# Altium footprint library Base_Footprints.PcbLib: 43 footprints (part 1 of 3)
Each footprint in its own frame and in the unit in brackets; x right, y up, seen from the top. Pads: shape width x height; smd on the part's side, far side on the other; paste and mask are expansions set on the pad; w line width, h text height; cw(c..) or ccw(c..) is an arc to the next point about the centre after c.
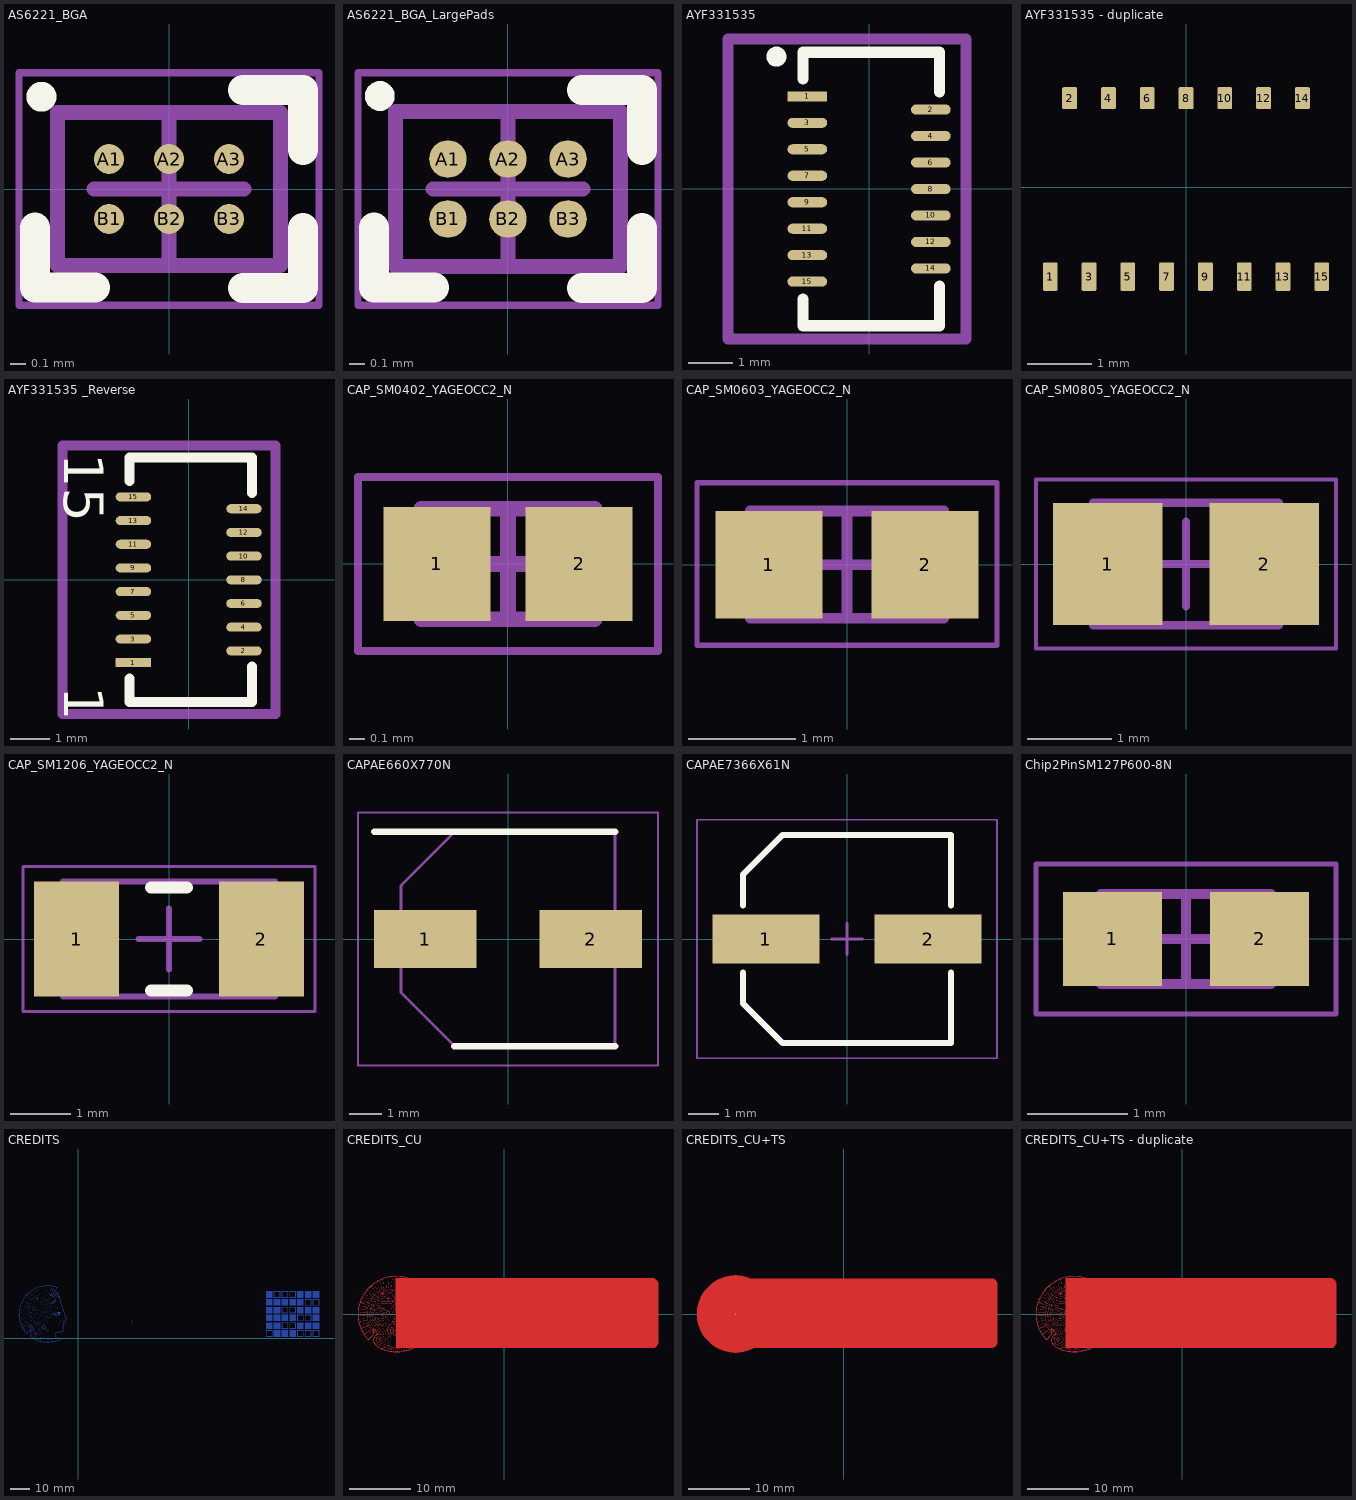
[diagram p0: the footprints below, top view; thin cyan lines are the x and y axes]

## AS6221_BGA [mm] "BGA, 6-Leads, Body 1,02x1,50mmx0,53mm, Pitch 0,40mm"
height 0.53
pads (6):
  round 0.2 smd: A1(-0.4,0.2) A2(0,0.2) A3(0.4,0.2) B1(-0.4,-0.2) B2(0,-0.2) B3(0.4,-0.2)
Top Overlay:
  circle w0.1: c-0.85,0.615 r0.05
  lines w0.2: -0.893,-0.256 -0.893,-0.656 -0.493,-0.656 ; 0.494,-0.66 0.894,-0.66 0.894,-0.26 ; 0.494,0.661 0.894,0.661 0.894,0.261
Top Courtyard:
  lines w0.05: -1,-0.775 1,-0.775 1,0.775 -1,0.775 -1,-0.775
  lines w0.1: -0.5,0 0.5,0 ; 0,-0.5 0,0.5
Mechanical 13:
  lines w0.1: -0.745,-0.51 0.745,-0.51 0.745,0.51 -0.745,0.51 -0.745,-0.51
3D body: height 0.55, standoff 0.18, extent -0.745,-0.51 0.745,0.51

## AS6221_BGA_LargePads [mm] "BGA, 6-Leads, Body 1.50x1.02mmx0.55mm, Pitch 0.40mm"
height 0.55
pads (6):
  round 0.25 smd paste-0.013: A1(-0.4,0.2) A2(0,0.2) A3(0.4,0.2) B1(-0.4,-0.2) B2(0,-0.2) B3(0.4,-0.2)
Top Overlay:
  circle w0.1: c-0.855,0.62 r0.05
  lines w0.2: -0.893,-0.256 -0.893,-0.656 -0.493,-0.656 ; 0.494,-0.66 0.894,-0.66 0.894,-0.26 ; 0.494,0.661 0.894,0.661 0.894,0.261
Top Solder:
  region: -0.625,-0.425 0.625,-0.425 0.625,0.425 -0.625,0.425
Top Courtyard:
  lines w0.05: -1,-0.775 1,-0.775 1,0.775 -1,0.775 -1,-0.775
  lines w0.1: -0.5,0 0.5,0 ; 0,-0.5 0,0.5
Top Assembly:
  lines w0.1: -0.75,-0.515 0.75,-0.515 0.75,0.515 -0.75,0.515 -0.75,-0.515
3D body: height 0.55, standoff 0.2, extent -0.75,-0.515 0.75,0.515

## AYF331535 [mm]
pads (15):
  rect 0.9x0.23 smd: 1(-1.4,2.1)
  oval 0.9x0.23 smd: 2(1.4,1.8) 3(-1.4,1.5) 4(1.4,1.2) 5(-1.4,0.9) 6(1.4,0.6) 7(-1.4,0.3) 8(1.4,0) 9(-1.4,-0.3) 10(1.4,-0.6) 11(-1.4,-0.9) 12(1.4,-1.2) 13(-1.4,-1.5) 14(1.4,-1.8) 15(-1.4,-2.1)
Top Overlay:
  circle w0.254: c-2.1,3 r0.1
  lines w0.254: -1.5,-2.5 -1.5,-3.1 1.6,-3.1 1.6,-2.2 ; -1.5,2.5 -1.5,3.1 1.6,3.1 1.6,2.2
Top Courtyard:
  lines w0.254: -3.2,-3.4 -3.2,3.4 2.2,3.4 2.2,-3.4 -3.2,-3.4
3D body: height 0.9, standoff 0, extent -1.4,-3 1.55,3

## AYF331535 - duplicate [mm] "AYF331535 FFC & FPC-Steckverbinder CONNECTOR SURFACE MOUNT"
pads (15):
  rrect20% 0.23x0.44 smd: 1(-2.1,-1.38) 3(-1.5,-1.38) 5(-0.9,-1.38) 7(-0.3,-1.38) 9(0.3,-1.38) 11(0.9,-1.38) 13(1.5,-1.38) 15(2.1,-1.38)
  rrect20% 0.23x0.34 smd: 2(-1.8,1.38) 4(-1.2,1.38) 6(-0.6,1.38) 8(0,1.38) 10(0.6,1.38) 12(1.2,1.38) 14(1.8,1.38)
3D body: height 1.84, standoff 0.01, extent -2.975,0.475 2.975,0.825
3D body: height 0.9, standoff 0, extent -3,-1.475 3,1.475

## AYF331535 _Reverse [mm]
pads (15):
  rect 0.9x0.23 smd: 1(-1.4,-2.1)
  oval 0.9x0.23 smd: 2(1.4,-1.8) 3(-1.4,-1.5) 4(1.4,-1.2) 5(-1.4,-0.9) 6(1.4,-0.6) 7(-1.4,-0.3) 8(1.4,0) 9(-1.4,0.3) 10(1.4,0.6) 11(-1.4,0.9) 12(1.4,1.2) 13(-1.4,1.5) 14(1.4,1.8) 15(-1.4,2.1)
Top Overlay:
  lines w0.254: -1.5,-2.5 -1.5,-3.1 1.6,-3.1 1.6,-2.2 ; -1.5,2.5 -1.5,3.1 1.6,3.1 1.6,2.2
  text "15" at -3.15,3.2 h1
  text "1" at -3.15,-2.7 h1
Top Courtyard:
  lines w0.254: -3.2,-3.4 -3.2,3.4 2.2,3.4 2.2,-3.4 -3.2,-3.4
3D body: height 0.9, standoff 0, extent -1.4,-3 1.55,3

## CAP_SM0402_YAGEOCC2_N [mm] "Capacitor, Yageo CC Class2, SM0402, IPC Medium Density"
height 0.9
pads (2):
  rect 0.68x0.72 smd: 1(-0.45,0) 2(0.45,0)
Mechanical 13:
  lines w0.1: -0.55,-0.35 0.55,-0.35 0.55,0.35 -0.55,0.35 -0.55,-0.35
Mechanical 15:
  lines w0.05: -0.95,-0.55 0.95,-0.55 0.95,0.55 -0.95,0.55 -0.95,-0.55
  lines w0.1: -0.35,0 0.35,0 ; 0,-0.35 0,0.35
3D body: height 0.6, standoff 0, extent 0.3,-0.35 0.55,0.35
3D body: height 0.6, standoff 0, extent -0.55,-0.35 -0.3,0.35
3D body: height 0.6, standoff 0, extent -0.3,-0.35 0.3,0.35

## CAP_SM0603_YAGEOCC2_N [mm] "Capacitor, Yageo CC Class2, SM0603, IPC Medium Density"
height 0.9
pads (2):
  rect 1x1 smd: 1(-0.727,0) 2(0.727,0)
Mechanical 13:
  lines w0.1: -0.9,-0.5 -0.9,0.5 0.9,0.5 0.9,-0.5 -0.9,-0.5
Mechanical 15:
  lines w0.05: -1.397,-0.75 -1.397,0.762 1.397,0.762 1.397,-0.75 -1.397,-0.75
  lines w0.1: -0.5,0 0.5,0 ; 0,-0.5 0,0.5
3D body: height 0.9, standoff 0, extent -0.5,-0.5 0.5,0.5
3D body: height 0.9, standoff 0, extent -0.9,-0.5 -0.5,0.5
3D body: height 0.9, standoff 0, extent 0.5,-0.5 0.9,0.5

## CAP_SM0805_YAGEOCC2_N [mm] "Capacitor, Yageo CC Class2, SM0805, IPC Medium Density"
height 1.45
pads (2):
  rect 1.3x1.45 smd: 1(-0.927,0) 2(0.927,0)
Mechanical 13:
  lines w0.1: -1.1,-0.725 -1.1,0.725 1.1,0.725 1.1,-0.725 -1.1,-0.725
Mechanical 15:
  lines w0.05: -1.778,-1 -1.778,1 1.778,1 1.778,-1 -1.778,-1
  lines w0.1: -0.5,0 0.5,0 ; 0,-0.5 0,0.5
3D body: height 1.45, standoff 0, extent -0.6,-0.725 0.6,0.725
3D body: height 1.45, standoff 0, extent -1.1,-0.725 -0.6,0.725
3D body: height 1.45, standoff 0, extent 0.6,-0.725 1.1,0.725

## CAP_SM1206_YAGEOCC2_N [mm] "Capacitor, Yageo CC Class2, SM1206, IPC Medium Density"
height 1.8
pads (2):
  rect 1.4x1.9 smd: 1(-1.527,0) 2(1.527,0)
Top Overlay:
  lines w0.2: -0.3,-0.85 0.3,-0.85 ; -0.3,0.85 0.3,0.85
Mechanical 13:
  lines w0.1: -1.75,-0.95 -1.75,0.95 1.75,0.95 1.75,-0.95 -1.75,-0.95
Mechanical 15:
  lines w0.05: -2.413,-1.2 -2.413,1.2 2.413,1.2 2.413,-1.2 -2.413,-1.2
  lines w0.1: -0.5,0 0.5,0 ; 0,-0.5 0,0.5
3D body: height 1.8, standoff 0, extent -1.25,-0.95 1.25,0.95
3D body: height 1.8, standoff 0, extent -1.75,-0.95 -1.25,0.95
3D body: height 1.8, standoff 0, extent 1.25,-0.95 1.75,0.95

## CAPAE660X770N [mm]
pads (2):
  rect 3.15x1.8 smd: 1(-2.55,0) 2(2.55,0)
Top Overlay:
  lines w0.2: -4.125,3.3 3.3,3.3 ; -1.65,-3.3 3.3,-3.3
Mechanical 15:
  lines w0.1: -3.3,-1.65 -3.3,1.65 -1.65,3.3 3.3,3.3 3.3,-3.3 -1.65,-3.3 -3.3,-1.65
Mechanical 20:
  lines w0.05: -4.625,-3.9 4.625,-3.9 4.625,3.9 -4.625,3.9 -4.625,-3.9
3D body "865080545012.stp": height 7.7, standoff 0, extent -3.4,-3.4 3.4,3.4

## CAPAE7366X61N [mm] "Aluminum Electrolytic Capacitor, Body 6,60x6,60x6,10mm, IPC Medium Density"
height 6.1
pads (2):
  rect 3.5x1.6 smd: 1(-2.65,0) 2(2.65,0)
Top Overlay:
  lines w0.2: -3.4,-1.1 -3.4,-2.1 -2.1,-3.4 3.4,-3.4 3.4,-1.1 ; -3.4,1.1 -3.4,2.1 -2.1,3.4 3.4,3.4 3.4,1.1
Mechanical 15:
  lines w0.05: -4.9,-3.9 4.9,-3.9 4.9,3.9 -4.9,3.9 -4.9,-3.9
  lines w0.1: -0.5,0 0.5,0 ; 0,-0.5 0,0.5
3D body "EEE-FK1E470P.stp": height 5.8, standoff 0, extent -3.683,-3.3 3.617,3.3

## Chip2PinSM127P600-8N [mm]
height 0.7
pads (2):
  rect 0.99x0.94 smd: 1(-0.735,0) 2(0.735,0)
Top Assembly:
  lines w0.1: -0.85,-0.45 0.85,-0.45 0.85,0.45 -0.85,0.45 -0.85,-0.45
Mechanical 15:
  lines w0.05: -1.5,-0.75 1.5,-0.75 1.5,0.75 -1.5,0.75 -1.5,-0.75
  lines w0.1: -0.45,0 0.45,0 ; 0,-0.45 0,0.45
3D body: height 0.7, standoff 0, extent 0.45,-0.45 0.85,0.45
3D body: height 0.7, standoff 0, extent -0.85,-0.45 -0.45,0.45
3D body: height 0.7, standoff 0, extent -0.45,-0.45 0.45,0.45

## CREDITS [mm]
Bottom Layer:
  region: 102.337,4.953 100.035,4.953 100.035,8.093 103.174,8.093 103.174,4.953 102.547,4.953
  region: 107.151,12.907 104.012,12.907 104.012,16.047 107.151,16.047 hole: 106.733,15.628 104.43,15.628 104.43,13.326 106.733,13.326
  region: 115.105,8.93 111.965,8.93 111.965,11.233 111.965,11.442 111.965,12.07 115.105,12.07 hole: 114.686,11.651 112.384,11.651 112.384,10.814 112.384,10.605 112.384,9.349 114.686,9.349
  region: 115.105,19.186 115.105,16.884 111.965,16.884 111.965,20.023 115.105,20.023 115.105,19.395
  region: 119.919,15.628 119.919,16.047 123.058,16.047 123.058,12.907 119.919,12.907 119.919,15.419
  region: 100.035,1.395 100.035,4.116 103.174,4.116 103.174,0.977 100.035,0.977 100.035,1.186
  region: 107.151,7.884 107.151,4.953 104.012,4.953 104.012,8.093 107.151,8.093 hole: 106.733,7.674 104.43,7.674 104.43,6 104.43,5.791 104.43,5.372 106.733,5.372
  region: 117.407,16.047 119.081,16.047 119.081,12.907 115.942,12.907 115.942,16.047 117.198,16.047
  region: 111.128,4.953 107.988,4.953 107.988,6.837 107.988,7.047 107.988,8.093 111.128,8.093 hole: 110.709,7.674 108.407,7.674 108.407,6.837 108.407,6.628 108.407,5.372 110.709,5.372
  region: 98.988,4.953 96.058,4.953 96.058,8.093 99.198,8.093 99.198,4.953
  region: 119.081,0.977 115.942,0.977 115.942,4.116 119.081,4.116 hole: 118.663,3.698 116.36,3.698 116.36,1.605 116.36,1.395 118.663,1.395
  region: 123.058,16.884 119.919,16.884 119.919,20.023 123.058,20.023 hole: 122.64,19.605 120.337,19.605 120.337,17.302 122.64,17.302 122.64,19.395
  region: 115.942,4.953 115.942,8.093 119.081,8.093 119.081,4.953 116.151,4.953
  region: 110.081,4.116 111.128,4.116 111.128,0.977 107.988,0.977 107.988,4.116 109.872,4.116
  region: 119.081,8.93 115.942,8.93 115.942,12.07 119.081,12.07 hole: 118.663,11.651 116.36,11.651 116.36,10.814 116.36,10.605 116.36,9.349 118.663,9.349
  region: 111.128,20.86 107.988,20.86 107.988,24 111.128,24 hole: 110.709,23.581 108.407,23.581 108.407,21.279 110.709,21.279
  region: 114.058,4.953 111.965,4.953 111.965,8.093 115.105,8.093 115.105,4.953 114.267,4.953
  region: 119.919,22.953 119.919,24 123.058,24 123.058,20.86 119.919,20.86 119.919,22.744
  region: 100.035,14.791 100.035,16.047 103.174,16.047 103.174,12.907 100.035,12.907 100.035,14.581
  region: 123.058,0.977 119.919,0.977 119.919,4.116 123.058,4.116 hole: 122.64,3.698 120.337,3.698 120.337,1.395 122.64,1.395
  region: 99.198,0.977 96.058,0.977 96.058,4.116 99.198,4.116 hole: 98.779,3.698 96.477,3.698 96.477,1.395 98.779,1.395 98.779,2.023 98.779,2.233
  region: 119.081,21.279 119.081,20.86 115.942,20.86 115.942,24 119.081,24 119.081,21.488
  region: 104.012,11.442 104.012,12.07 107.151,12.07 107.151,8.93 104.012,8.93 104.012,11.233
  region: 107.151,2.86 107.151,0.977 104.012,0.977 104.012,4.116 107.151,4.116 107.151,3.07
  region: 101.709,12.07 103.174,12.07 103.174,8.93 100.035,8.93 100.035,12.07 101.5,12.07
  region: 103.174,20.86 100.035,20.86 100.035,24 103.174,24 hole: 102.756,23.581 100.453,23.581 100.453,22.535 100.453,22.326 100.453,21.279 102.756,21.279
  region: 112.384,12.907 111.965,12.907 111.965,16.047 115.105,16.047 115.105,12.907 112.593,12.907
  region: 96.267,16.884 96.058,16.884 96.058,20.023 99.198,20.023 99.198,16.884 96.477,16.884
  region: 119.081,17.721 119.081,17.512 119.081,16.884 115.942,16.884 115.942,20.023 119.081,20.023 hole: 118.663,19.605 116.36,19.605 116.36,17.302 118.663,17.302
  region: 103.174,19.395 103.174,16.884 100.035,16.884 100.035,20.023 103.174,20.023 103.174,19.605
  region: 110.709,8.93 107.988,8.93 107.988,12.07 111.128,12.07 111.128,8.93 110.919,8.93
  region: 99.198,14.163 99.198,12.907 96.058,12.907 96.058,16.047 99.198,16.047 99.198,14.372
  region: 107.988,19.395 107.988,20.023 111.128,20.023 111.128,16.884 107.988,16.884 107.988,19.186
  region: 122.64,12.07 123.058,12.07 123.058,8.93 119.919,8.93 119.919,12.07 122.43,12.07
  region: 119.919,6.837 119.919,8.093 123.058,8.093 123.058,4.953 119.919,4.953 119.919,6.628
  region: 115.105,21.698 115.105,20.86 111.965,20.86 111.965,24 115.105,24 115.105,21.907
  region: 99.198,9.349 99.198,8.93 96.058,8.93 96.058,12.07 99.198,12.07 99.198,9.558
  region: 111.128,12.907 107.988,12.907 107.988,16.047 111.128,16.047 hole: 110.709,15.628 108.407,15.628 108.407,14.581 108.407,14.372 108.407,13.326 110.709,13.326
  region: 98.151,24 99.198,24 99.198,20.86 96.058,20.86 96.058,24 97.942,24
  region: 104.012,18.349 104.012,20.023 107.151,20.023 107.151,16.884 104.012,16.884 104.012,18.14
  region: 107.151,20.86 104.012,20.86 104.012,24 107.151,24 hole: 106.733,23.581 104.43,23.581 104.43,21.279 106.733,21.279
  region: 115.105,0.977 111.965,0.977 111.965,4.116 115.105,4.116 hole: 114.686,3.698 112.384,3.698 112.384,1.395 114.686,1.395 114.686,3.07 114.686,3.279
  region: -12.109,19.295 -12.159,19.446 -12.126,19.613 -12.042,19.697 -11.907,19.731 -11.773,19.697 -11.689,19.613 -11.639,19.429 -11.689,19.311 -11.74,19.261 -11.907,19.194 -12.075,19.261 -12.092,19.278
  region: -12.746,18.791 -12.646,18.892 -12.478,18.858 -12.428,18.808 -12.394,18.741 -12.36,18.64 -12.394,18.539 -12.444,18.455 -12.579,18.422 -12.713,18.455 -12.83,18.573 -12.797,18.741 -12.763,18.774
  region: -13.451,17.818 -13.367,17.935 -13.149,17.952 -13.065,17.868 -13.099,17.633 -13.183,17.549 -13.351,17.583 -13.435,17.667 -13.468,17.801
  region: -21.003,19.899 -21.087,19.983 -21.121,20.117 -21.087,20.318 -20.903,20.402 -20.735,20.369 -20.651,20.285 -20.685,19.983 -20.768,19.899 -20.97,19.899
  region: -17.11,6.473 -16.808,6.238 -16.757,6.188 -16.657,5.953 -16.69,5.516 -16.825,5.281 -16.875,5.231 -16.942,5.197 -17.009,5.13 -17.177,5.063 -17.462,5.046 -17.63,5.08 -17.815,5.197 -18.033,5.416 -18.083,5.6 -18.1,5.953 -17.932,6.255 -17.815,6.372 -17.764,6.389 -17.748,6.406 -17.513,6.506 hole: -17.278,6.238 -17.546,6.204 -17.58,6.204 -17.764,6.053 -17.832,5.885 -17.865,5.751 -17.781,5.533 -17.731,5.483 -17.697,5.416 -17.513,5.332 -17.378,5.298 -17.194,5.348 -17.076,5.432 -16.959,5.55 -16.925,5.684 -16.892,5.785 -16.959,5.986 -17.11,6.171
  region: -9.256,13.354 -9.172,13.27 -9.205,13.135 -9.323,13.018 -9.491,12.917 -9.507,12.8 -9.474,12.699 -9.507,12.296 -9.642,12.061 -9.692,12.011 -9.86,11.944 -9.994,11.91 -10.43,11.877 -11.538,11.91 -11.639,11.944 -11.924,11.994 -12.092,12.028 -12.26,12.095 -12.444,12.145 -12.696,12.162 -12.713,12.246 -12.629,12.363 -12.512,12.481 -12.444,12.514 -12.31,12.649 -12.243,12.682 -12.176,12.749 -11.471,13.085 -11.337,13.119 -11.085,13.203 -11.068,13.219 -10.665,13.286 -10.531,13.32 -10.095,13.354 -9.961,13.387 hole: -10.632,13.052 -10.733,13.018 -10.8,12.984 -10.85,12.934 -10.884,12.8 -10.85,12.33 -10.766,12.145 -10.649,12.128 -10.347,12.162 -10.279,12.229 -10.363,12.447 -10.38,12.498 -10.38,12.531 -10.397,12.716 -10.38,13.035 hole: -11.303,12.884 -11.32,12.867 -11.337,12.85 -11.555,12.766 -12.142,12.447 -12.159,12.363 -12.109,12.313 -11.974,12.28 -11.79,12.229 -11.622,12.196 -11.354,12.162 -11.169,12.145 -11.085,12.196 -11.119,12.632 -11.152,12.766 -11.186,12.867
  region: 406 vertices and 73 holes, not listed, extent -30.284,-2.019 -5.983,26.981
  region: 27.006,8.479 27.006,8.769 27.296,8.769 27.296,8.479 27.103,8.479
  text "Malte Nilges / 01/2024  v2" at 0,0 h8

## CREDITS_CU [mm]
Top Layer:
  pour cut-out: 24.3,5.8 24.379,5.8 24.533,5.769 24.679,5.709 24.81,5.621 24.921,5.51 25.009,5.379 25.069,5.233 25.1,5.079 25.1,5 25.1,-4.7 25.1,-4.779 25.069,-4.933 25.009,-5.079 24.921,-5.21 24.81,-5.321 24.679,-5.409 24.533,-5.469 24.379,-5.5 24.3,-5.5
  region: -19.892,3.183 -19.927,3.219 -19.942,3.277 -19.927,3.363 -19.848,3.399 -19.776,3.385 -19.741,3.349 -19.755,3.219 -19.791,3.183 -19.877,3.183
  region: 406 vertices and 73 holes, not listed, extent -23.868,-6.207 -13.456,6.218
  region: -18.223,-2.569 -18.094,-2.67 -18.072,-2.691 -18.029,-2.792 -18.044,-2.979 -18.101,-3.079 -18.123,-3.101 -18.151,-3.115 -18.18,-3.144 -18.252,-3.173 -18.374,-3.18 -18.446,-3.166 -18.525,-3.115 -18.619,-3.022 -18.64,-2.943 -18.648,-2.792 -18.576,-2.662 -18.525,-2.612 -18.504,-2.605 -18.497,-2.598 -18.396,-2.554 hole: -18.295,-2.67 -18.41,-2.684 -18.425,-2.684 -18.504,-2.749 -18.533,-2.821 -18.547,-2.878 -18.511,-2.972 -18.489,-2.993 -18.475,-3.022 -18.396,-3.058 -18.338,-3.072 -18.259,-3.051 -18.209,-3.015 -18.159,-2.964 -18.144,-2.907 -18.13,-2.864 -18.159,-2.777 -18.223,-2.698
  region: -16.656,2.292 -16.62,2.342 -16.526,2.349 -16.49,2.313 -16.505,2.213 -16.541,2.177 -16.613,2.191 -16.649,2.227 -16.663,2.285
  region: -16.354,2.709 -16.311,2.752 -16.239,2.738 -16.217,2.716 -16.203,2.687 -16.188,2.644 -16.203,2.601 -16.224,2.565 -16.282,2.551 -16.339,2.565 -16.39,2.615 -16.375,2.687 -16.361,2.702
  region: -16.081,2.925 -16.102,2.989 -16.088,3.061 -16.052,3.097 -15.994,3.112 -15.937,3.097 -15.901,3.061 -15.879,2.982 -15.901,2.932 -15.922,2.91 -15.994,2.881 -16.066,2.91 -16.073,2.917
  region: -14.858,0.379 -14.822,0.343 -14.837,0.286 -14.887,0.235 -14.959,0.192 -14.966,0.142 -14.952,0.099 -14.966,-0.074 -15.024,-0.174 -15.045,-0.196 -15.117,-0.225 -15.175,-0.239 -15.362,-0.254 -15.836,-0.239 -15.879,-0.225 -16.002,-0.203 -16.073,-0.189 -16.145,-0.16 -16.224,-0.138 -16.332,-0.131 -16.339,-0.095 -16.304,-0.045 -16.253,0.005 -16.224,0.02 -16.167,0.077 -16.138,0.092 -16.109,0.12 -15.807,0.264 -15.75,0.279 -15.642,0.314 -15.635,0.322 -15.462,0.35 -15.405,0.365 -15.218,0.379 -15.16,0.394 hole: -15.448,0.25 -15.491,0.235 -15.52,0.221 -15.541,0.199 -15.556,0.142 -15.541,-0.059 -15.505,-0.138 -15.455,-0.146 -15.326,-0.131 -15.297,-0.103 -15.333,-0.009 -15.34,0.012 -15.34,0.027 -15.347,0.106 -15.34,0.243 hole: -15.735,0.178 -15.743,0.171 -15.75,0.163 -15.843,0.128 -16.095,-0.009 -16.102,-0.045 -16.081,-0.067 -16.023,-0.081 -15.944,-0.103 -15.872,-0.117 -15.757,-0.131 -15.678,-0.138 -15.642,-0.117 -15.656,0.07 -15.671,0.128 -15.685,0.171
  region: 15.071,-4.309 13.909,-4.309 13.909,-3.146 15.071,-3.146 hole: 14.916,-3.301 14.064,-3.301 14.064,-4.153 14.916,-4.153 14.916,-3.921 14.916,-3.843
  region: 15.071,-1.208 15.071,-1.363 13.909,-1.363 13.909,-0.2 15.071,-0.2 15.071,-1.13
  region: 14.994,-2.836 13.909,-2.836 13.909,-1.673 15.071,-1.673 15.071,-2.836
  region: 14.684,4.219 15.071,4.219 15.071,3.056 13.909,3.056 13.909,4.219 14.606,4.219
  region: 15.071,0.575 15.071,0.11 13.909,0.11 13.909,1.273 15.071,1.273 15.071,0.653
  region: 13.986,1.583 13.909,1.583 13.909,2.746 15.071,2.746 15.071,1.583 14.064,1.583
  region: 16.234,-2.836 15.381,-2.836 15.381,-1.673 16.544,-1.673 16.544,-2.836 16.312,-2.836
  region: 16.544,3.056 15.381,3.056 15.381,4.219 16.544,4.219 hole: 16.389,4.064 15.536,4.064 15.536,3.676 15.536,3.598 15.536,3.211 16.389,3.211
  region: 15.381,-4.153 15.381,-3.146 16.544,-3.146 16.544,-4.309 15.381,-4.309 15.381,-4.231
  region: 16.002,-0.2 16.544,-0.2 16.544,-1.363 15.381,-1.363 15.381,-0.2 15.924,-0.2
  region: 16.544,2.513 16.544,1.583 15.381,1.583 15.381,2.746 16.544,2.746 16.544,2.591
  region: 15.381,0.808 15.381,1.273 16.544,1.273 16.544,0.11 15.381,0.11 15.381,0.73
  region: 18.017,0.11 16.854,0.11 16.854,1.273 18.017,1.273 hole: 17.862,1.118 17.009,1.118 17.009,0.265 17.862,0.265
  region: 18.017,3.056 16.854,3.056 16.854,4.219 18.017,4.219 hole: 17.862,4.064 17.009,4.064 17.009,3.211 17.862,3.211
  region: 18.017,-1.75 18.017,-2.836 16.854,-2.836 16.854,-1.673 18.017,-1.673 hole: 17.862,-1.828 17.009,-1.828 17.009,-2.448 17.009,-2.526 17.009,-2.681 17.862,-2.681
  region: 16.854,-0.433 16.854,-0.2 18.017,-0.2 18.017,-1.363 16.854,-1.363 16.854,-0.51
  region: 18.017,-3.611 18.017,-4.309 16.854,-4.309 16.854,-3.146 18.017,-3.146 18.017,-3.533
  region: 16.854,2.126 16.854,2.746 18.017,2.746 18.017,1.583 16.854,1.583 16.854,2.048
  region: 19.335,-1.363 18.327,-1.363 18.327,-0.2 19.49,-0.2 19.49,-1.363 19.412,-1.363
  region: 19.49,3.056 18.327,3.056 18.327,4.219 19.49,4.219 hole: 19.335,4.064 18.482,4.064 18.482,3.211 19.335,3.211
  region: 18.327,2.513 18.327,2.746 19.49,2.746 19.49,1.583 18.327,1.583 18.327,2.436
  region: 19.49,0.11 18.327,0.11 18.327,1.273 19.49,1.273 hole: 19.335,1.118 18.482,1.118 18.482,0.73 18.482,0.653 18.482,0.265 19.335,0.265
  region: 19.102,-3.146 19.49,-3.146 19.49,-4.309 18.327,-4.309 18.327,-3.146 19.025,-3.146
  region: 19.49,-2.836 18.327,-2.836 18.327,-2.138 18.327,-2.06 18.327,-1.673 19.49,-1.673 hole: 19.335,-1.828 18.482,-1.828 18.482,-2.138 18.482,-2.216 18.482,-2.681 19.335,-2.681
  region: 20.963,-1.363 19.8,-1.363 19.8,-0.51 19.8,-0.433 19.8,-0.2 20.963,-0.2 hole: 20.808,-0.355 19.955,-0.355 19.955,-0.665 19.955,-0.743 19.955,-1.208 20.808,-1.208
  region: 19.955,0.11 19.8,0.11 19.8,1.273 20.963,1.273 20.963,0.11 20.033,0.11
  region: 20.575,-2.836 19.8,-2.836 19.8,-1.673 20.963,-1.673 20.963,-2.836 20.653,-2.836
  region: 20.963,3.366 20.963,3.056 19.8,3.056 19.8,4.219 20.963,4.219 20.963,3.443
  region: 20.963,-4.309 19.8,-4.309 19.8,-3.146 20.963,-3.146 hole: 20.808,-3.301 19.955,-3.301 19.955,-4.153 20.808,-4.153 20.808,-3.533 20.808,-3.456
  region: 20.963,2.436 20.963,1.583 19.8,1.583 19.8,2.746 20.963,2.746 20.963,2.513
  region: 22.436,1.893 22.436,1.816 22.436,1.583 21.273,1.583 21.273,2.746 22.436,2.746 hole: 22.281,2.591 21.428,2.591 21.428,1.738 22.281,1.738
  region: 22.436,-1.363 21.273,-1.363 21.273,-0.2 22.436,-0.2 hole: 22.281,-0.355 21.428,-0.355 21.428,-0.665 21.428,-0.743 21.428,-1.208 22.281,-1.208
  region: 22.436,3.211 22.436,3.056 21.273,3.056 21.273,4.219 22.436,4.219 22.436,3.288
  region: 22.436,-4.309 21.273,-4.309 21.273,-3.146 22.436,-3.146 hole: 22.281,-3.301 21.428,-3.301 21.428,-4.076 21.428,-4.153 22.281,-4.153
  region: 21.273,-2.836 21.273,-1.673 22.436,-1.673 22.436,-2.836 21.35,-2.836
  region: 21.816,1.273 22.436,1.273 22.436,0.11 21.273,0.11 21.273,1.273 21.738,1.273
  region: 22.746,3.831 22.746,4.219 23.909,4.219 23.909,3.056 22.746,3.056 22.746,3.753
  region: 23.753,-0.2 23.909,-0.2 23.909,-1.363 22.746,-1.363 22.746,-0.2 23.676,-0.2
  region: 22.746,-2.138 22.746,-1.673 23.909,-1.673 23.909,-2.836 22.746,-2.836 22.746,-2.216
  region: 23.909,-4.309 22.746,-4.309 22.746,-3.146 23.909,-3.146 hole: 23.753,-3.301 22.901,-3.301 22.901,-4.153 23.753,-4.153
  region: 23.909,1.583 22.746,1.583 22.746,2.746 23.909,2.746 hole: 23.753,2.591 22.901,2.591 22.901,1.738 23.753,1.738 23.753,2.513
  region: 22.746,1.118 22.746,1.273 23.909,1.273 23.909,0.11 22.746,0.11 22.746,1.04
  pour cut-out: 24.3,5.8 24.3,-5.5 -17.606,-5.5 -17.696,5.8
  text "01-2024" at -11.848,-3.3 h2.2
  text "Malte Nilges" at -11.796,1.067 h2.2

## CREDITS_CU+TS [mil]
pads (1):
  round 1 smd paste-99999 mask-99999: ""(-696.31,0.36)
Top Layer:
  region: 956.69,228.35 956.69,-216.54 -693.39,-216.54 -693.39,228.35
  region: 956.69,228.35 959.79,228.35 965.88,227.14 971.61,224.76 976.77,221.31 981.16,216.93 984.6,211.77 986.98,206.04 988.19,199.95 988.19,196.85 988.19,-185.04 988.19,-188.14 986.98,-194.23 984.6,-199.96 981.16,-205.12 976.77,-209.5 971.61,-212.95 965.88,-215.32 959.79,-216.54 956.69,-216.54
  region: -783.13,125.33 -784.55,126.75 -785.11,129.01 -784.55,132.41 -781.43,133.83 -778.6,133.26 -777.19,131.84 -777.75,126.75 -779.17,125.33 -782.56,125.33
  region: 406 vertices and 73 holes, not listed, extent -939.68,-244.38 -529.77,244.8
  region: -717.45,-101.14 -712.36,-105.1 -711.51,-105.95 -709.81,-109.91 -710.38,-117.27 -712.64,-121.23 -713.49,-122.08 -714.62,-122.65 -715.76,-123.78 -718.59,-124.92 -723.4,-125.2 -726.23,-124.63 -729.34,-122.65 -733.02,-118.97 -733.87,-115.86 -734.16,-109.91 -731.33,-104.82 -729.34,-102.83 -728.5,-102.55 -728.21,-102.27 -724.25,-100.57 hole: -720.29,-105.1 -724.81,-105.67 -725.38,-105.67 -728.5,-108.21 -729.63,-111.04 -730.19,-113.31 -728.78,-116.99 -727.93,-117.84 -727.36,-118.97 -724.25,-120.39 -721.98,-120.95 -718.87,-120.1 -716.89,-118.69 -714.91,-116.71 -714.34,-114.44 -713.77,-112.74 -714.91,-109.35 -717.45,-106.23
  region: -655.74,90.23 -654.33,92.21 -650.65,92.5 -649.23,91.08 -649.8,87.12 -651.21,85.7 -654.04,86.27 -655.46,87.68 -656.02,89.95
  region: -643.85,106.65 -642.15,108.35 -639.32,107.78 -638.47,106.93 -637.91,105.8 -637.34,104.1 -637.91,102.4 -638.76,100.99 -641.02,100.42 -643.29,100.99 -645.27,102.97 -644.7,105.8 -644.14,106.37
  region: -633.1,115.14 -633.94,117.69 -633.38,120.52 -631.96,121.94 -629.7,122.5 -627.43,121.94 -626.02,120.52 -625.17,117.41 -626.02,115.43 -626.87,114.58 -629.7,113.44 -632.53,114.58 -632.81,114.86
  region: -584.97,14.93 -583.55,13.51 -584.12,11.25 -586.1,9.27 -588.93,7.57 -589.22,5.59 -588.65,3.89 -589.22,-2.9 -591.48,-6.87 -592.33,-7.72 -595.16,-8.85 -597.43,-9.42 -604.79,-9.98 -623.47,-9.42 -625.17,-8.85 -629.98,-8 -632.81,-7.43 -635.64,-6.3 -638.76,-5.45 -643,-5.17 -643.29,-3.75 -641.87,-1.77 -639.89,0.21 -638.76,0.78 -636.49,3.04 -635.36,3.61 -634.23,4.74 -622.34,10.4 -620.07,10.97 -615.83,12.38 -615.54,12.66 -608.75,13.8 -606.48,14.36 -599.12,14.93 -596.86,15.5 hole: -608.18,9.83 -609.88,9.27 -611.01,8.7 -611.86,7.85 -612.43,5.59 -611.86,-2.34 -610.45,-5.45 -608.47,-5.74 -603.37,-5.17 -602.24,-4.04 -603.65,-0.36 -603.94,0.49 -603.94,1.06 -604.22,4.17 -603.94,9.55 hole: -619.51,7 -619.79,6.72 -620.07,6.44 -623.75,5.02 -633.66,-0.36 -633.94,-1.77 -633.1,-2.62 -630.83,-3.19 -627.72,-4.04 -624.89,-4.6 -620.36,-5.17 -617.24,-5.45 -615.83,-4.6 -616.39,2.76 -616.96,5.02 -617.53,6.72
  region: 593.36,-169.63 547.58,-169.63 547.58,-123.85 593.36,-123.85 hole: 587.26,-129.95 553.68,-129.95 553.68,-163.52 587.26,-163.52 587.26,-154.37 587.26,-151.32
  region: 593.36,-47.55 593.36,-53.65 547.58,-53.65 547.58,-7.87 593.36,-7.87 593.36,-44.5
  region: 590.31,-111.64 547.58,-111.64 547.58,-65.86 593.36,-65.86 593.36,-111.64
  region: 578.1,166.09 593.36,166.09 593.36,120.31 547.58,120.31 547.58,166.09 575.05,166.09
  region: 593.36,22.65 593.36,4.33 547.58,4.33 547.58,50.11 593.36,50.11 593.36,25.7
  region: 550.63,62.32 547.58,62.32 547.58,108.1 593.36,108.1 593.36,62.32 553.68,62.32
  region: 639.14,-111.64 605.57,-111.64 605.57,-65.86 651.35,-65.86 651.35,-111.64 642.19,-111.64
  region: 651.35,120.31 605.57,120.31 605.57,166.09 651.35,166.09 hole: 645.24,159.98 611.67,159.98 611.67,144.72 611.67,141.67 611.67,126.41 645.24,126.41
  region: 605.57,-163.52 605.57,-123.85 651.35,-123.85 651.35,-169.63 605.57,-169.63 605.57,-166.58
  region: 629.98,-7.87 651.35,-7.87 651.35,-53.65 605.57,-53.65 605.57,-7.87 626.93,-7.87
  region: 651.35,98.94 651.35,62.32 605.57,62.32 605.57,108.1 651.35,108.1 651.35,102
  region: 605.57,31.8 605.57,50.11 651.35,50.11 651.35,4.33 605.57,4.33 605.57,28.75
  region: 709.33,4.33 663.55,4.33 663.55,50.11 709.33,50.11 hole: 703.23,44.01 669.66,44.01 669.66,10.44 703.23,10.44
  region: 709.33,120.31 663.55,120.31 663.55,166.09 709.33,166.09 hole: 703.23,159.98 669.66,159.98 669.66,126.41 703.23,126.41
  region: 709.33,-68.91 709.33,-111.64 663.55,-111.64 663.55,-65.86 709.33,-65.86 hole: 703.23,-71.96 669.66,-71.96 669.66,-96.38 669.66,-99.43 669.66,-105.54 703.23,-105.54
  region: 663.55,-17.03 663.55,-7.87 709.33,-7.87 709.33,-53.65 663.55,-53.65 663.55,-20.08
  region: 709.33,-142.16 709.33,-169.63 663.55,-169.63 663.55,-123.85 709.33,-123.85 709.33,-139.11
  region: 663.55,83.68 663.55,108.1 709.33,108.1 709.33,62.32 663.55,62.32 663.55,80.63
  region: 761.22,-53.65 721.54,-53.65 721.54,-7.87 767.32,-7.87 767.32,-53.65 764.27,-53.65
  region: 767.32,120.31 721.54,120.31 721.54,166.09 767.32,166.09 hole: 761.22,159.98 727.64,159.98 727.64,126.41 761.22,126.41
  region: 721.54,98.94 721.54,108.1 767.32,108.1 767.32,62.32 721.54,62.32 721.54,95.89
  region: 767.32,4.33 721.54,4.33 721.54,50.11 767.32,50.11 hole: 761.22,44.01 727.64,44.01 727.64,28.75 727.64,25.7 727.64,10.44 761.22,10.44
  region: 752.06,-123.85 767.32,-123.85 767.32,-169.63 721.54,-169.63 721.54,-123.85 749.01,-123.85
  region: 767.32,-111.64 721.54,-111.64 721.54,-84.17 721.54,-81.12 721.54,-65.86 767.32,-65.86 hole: 761.22,-71.96 727.64,-71.96 727.64,-84.17 727.64,-87.22 727.64,-105.54 761.22,-105.54
  region: 825.31,-53.65 779.53,-53.65 779.53,-20.08 779.53,-17.03 779.53,-7.87 825.31,-7.87 hole: 819.2,-13.98 785.63,-13.98 785.63,-26.19 785.63,-29.24 785.63,-47.55 819.2,-47.55
  region: 785.63,4.33 779.53,4.33 779.53,50.11 825.31,50.11 825.31,4.33 788.68,4.33
  region: 810.05,-111.64 779.53,-111.64 779.53,-65.86 825.31,-65.86 825.31,-111.64 813.1,-111.64
  region: 825.31,132.52 825.31,120.31 779.53,120.31 779.53,166.09 825.31,166.09 825.31,135.57
  region: 825.31,-169.63 779.53,-169.63 779.53,-123.85 825.31,-123.85 hole: 819.2,-129.95 785.63,-129.95 785.63,-163.52 819.2,-163.52 819.2,-139.11 819.2,-136.06
  region: 825.31,95.89 825.31,62.32 779.53,62.32 779.53,108.1 825.31,108.1 825.31,98.94
  region: 883.29,74.53 883.29,71.48 883.29,62.32 837.51,62.32 837.51,108.1 883.29,108.1 hole: 877.19,102 843.62,102 843.62,68.42 877.19,68.42
  region: 883.29,-53.65 837.51,-53.65 837.51,-7.87 883.29,-7.87 hole: 877.19,-13.98 843.62,-13.98 843.62,-26.19 843.62,-29.24 843.62,-47.55 877.19,-47.55
  region: 883.29,126.41 883.29,120.31 837.51,120.31 837.51,166.09 883.29,166.09 883.29,129.46
  region: 883.29,-169.63 837.51,-169.63 837.51,-123.85 883.29,-123.85 hole: 877.19,-129.95 843.62,-129.95 843.62,-160.47 843.62,-163.52 877.19,-163.52
  region: 837.51,-111.64 837.51,-65.86 883.29,-65.86 883.29,-111.64 840.57,-111.64
  region: 858.88,50.11 883.29,50.11 883.29,4.33 837.51,4.33 837.51,50.11 855.83,50.11
  region: 895.5,150.83 895.5,166.09 941.28,166.09 941.28,120.31 895.5,120.31 895.5,147.78
  region: 935.18,-7.87 941.28,-7.87 941.28,-53.65 895.5,-53.65 895.5,-7.87 932.12,-7.87
  region: 895.5,-84.17 895.5,-65.86 941.28,-65.86 941.28,-111.64 895.5,-111.64 895.5,-87.22
  region: 941.28,-169.63 895.5,-169.63 895.5,-123.85 941.28,-123.85 hole: 935.18,-129.95 901.61,-129.95 901.61,-163.52 935.18,-163.52
  region: 941.28,62.32 895.5,62.32 895.5,108.1 941.28,108.1 hole: 935.18,102 901.61,102 901.61,68.42 935.18,68.42 935.18,98.94
  region: 895.5,44.01 895.5,50.11 941.28,50.11 941.28,4.33 895.5,4.33 895.5,40.96
  region: -696.31,-247.67 -703.27,-247.67 -717.17,-246.89 -731,-245.33 -744.72,-243 -758.29,-239.9 -771.66,-236.05 -784.8,-231.45 -797.66,-226.12 -810.2,-220.09 -822.38,-213.35 -834.17,-205.95 -845.52,-197.89 -856.4,-189.22 -866.78,-179.94 -876.62,-170.1 -885.89,-159.72 -894.57,-148.84 -902.63,-137.49 -910.03,-125.7 -916.76,-113.52 -922.8,-100.98 -928.13,-88.12 -932.73,-74.99 -936.58,-61.61 -939.68,-48.04 -942.01,-34.32 -943.57,-20.49 -944.35,-6.6 -944.35,0.36 -944.35,7.32 -943.57,21.22 -942.01,35.05 -939.68,48.77 -936.58,62.34 -932.73,75.71 -928.13,88.85 -922.8,101.71 -916.76,114.25 -910.03,126.43 -902.63,138.22 -894.57,149.57 -885.89,160.45 -876.62,170.83 -866.78,180.67 -856.4,189.94 -845.52,198.62 -834.17,206.68 -822.38,214.08 -810.2,220.81 -797.66,226.85 -784.8,232.18 -771.66,236.77 -758.29,240.63 -744.72,243.72 -731,246.06 -717.17,247.61 -703.27,248.39 -696.31,248.39 -689.36,248.39 -675.46,247.61 -661.63,246.06 -647.91,243.72 -634.34,240.63 -620.96,236.77 -607.83,232.18 -594.97,226.85 -582.43,220.81 -570.25,214.08 -558.46,206.68 -547.11,198.62 -536.23,189.94 -525.85,180.67 -516.01,170.83 -506.73,160.45 -498.06,149.57 -490,138.22 -482.6,126.43 -475.86,114.25 -469.83,101.71 -464.5,88.85 -459.9,75.71 -456.05,62.34 -452.95,48.77 -450.62,35.05 -449.06,21.22 -448.28,7.32 -448.28,0.36 -448.28,-6.6 -449.06,-20.49 -450.62,-34.32 -452.95,-48.04 -456.05,-61.61 -459.9,-74.99 -464.5,-88.12 -469.83,-100.98 -475.86,-113.52 -482.6,-125.7 -490,-137.49 -498.06,-148.84 -506.73,-159.72 -516.01,-170.1 -525.85,-179.94 -536.23,-189.22 -547.11,-197.89 -558.46,-205.95 -570.25,-213.35 -582.43,-220.09 -594.97,-226.12 -607.83,-231.45 -620.96,-236.05 -634.34,-239.9 -647.91,-243 -661.63,-245.33 -675.46,-246.89 -689.36,-247.67
  text "01-2024" at -466.44,-129.91 h86.61
  text "Malte Nilges" at -464.41,42 h86.61
Top Solder:
  drawing of 51 lines, arcs and shapes, not listed
  text "Malte Nilges" at -464.41,42 h86.61
  text "01-2024" at -466.44,-129.91 h86.61

## CREDITS_CU+TS - duplicate [mm]
Top Layer:
  pour cut-out: -12.418,5.8 -12.418,-5.492 -19,-5.492 -19,5.8
  region: -12.418,-5.5 -12.497,-5.5 -12.651,-5.469 -12.797,-5.409 -12.928,-5.321 -13.039,-5.21 -13.127,-5.079 -13.187,-4.933 -13.218,-4.779 -13.218,-4.7 -13.218,5 -13.218,5.079 -13.187,5.233 -13.127,5.379 -13.039,5.51 -12.928,5.621 -12.797,5.709 -12.651,5.769 -12.497,5.8 -12.418,5.8
  region: 24.3,5.8 24.3,-5.5 -12.418,-5.5 -12.418,5.8
  region: 24.3,5.8 24.379,5.8 24.533,5.769 24.679,5.709 24.81,5.621 24.921,5.51 25.009,5.379 25.069,5.233 25.1,5.079 25.1,5 25.1,-4.7 25.1,-4.779 25.069,-4.933 25.009,-5.079 24.921,-5.21 24.81,-5.321 24.679,-5.409 24.533,-5.469 24.379,-5.5 24.3,-5.5
  region: -19.892,3.183 -19.927,3.219 -19.942,3.277 -19.927,3.363 -19.848,3.399 -19.776,3.385 -19.741,3.349 -19.755,3.219 -19.791,3.183 -19.877,3.183
  region: 406 vertices and 73 holes, not listed, extent -23.868,-6.207 -13.456,6.218
  region: -18.223,-2.569 -18.094,-2.67 -18.072,-2.691 -18.029,-2.792 -18.044,-2.979 -18.101,-3.079 -18.123,-3.101 -18.151,-3.115 -18.18,-3.144 -18.252,-3.173 -18.374,-3.18 -18.446,-3.166 -18.525,-3.115 -18.619,-3.022 -18.64,-2.943 -18.648,-2.792 -18.576,-2.662 -18.525,-2.612 -18.504,-2.605 -18.497,-2.598 -18.396,-2.554 hole: -18.295,-2.67 -18.41,-2.684 -18.425,-2.684 -18.504,-2.749 -18.533,-2.821 -18.547,-2.878 -18.511,-2.972 -18.489,-2.993 -18.475,-3.022 -18.396,-3.058 -18.338,-3.072 -18.259,-3.051 -18.209,-3.015 -18.159,-2.964 -18.144,-2.907 -18.13,-2.864 -18.159,-2.777 -18.223,-2.698
  region: -16.656,2.292 -16.62,2.342 -16.526,2.349 -16.49,2.313 -16.505,2.213 -16.541,2.177 -16.613,2.191 -16.649,2.227 -16.663,2.285
  region: -16.354,2.709 -16.311,2.752 -16.239,2.738 -16.217,2.716 -16.203,2.687 -16.188,2.644 -16.203,2.601 -16.224,2.565 -16.282,2.551 -16.339,2.565 -16.39,2.615 -16.375,2.687 -16.361,2.702
  region: -16.081,2.925 -16.102,2.989 -16.088,3.061 -16.052,3.097 -15.994,3.112 -15.937,3.097 -15.901,3.061 -15.879,2.982 -15.901,2.932 -15.922,2.91 -15.994,2.881 -16.066,2.91 -16.073,2.917
  region: -14.858,0.379 -14.822,0.343 -14.837,0.286 -14.887,0.235 -14.959,0.192 -14.966,0.142 -14.952,0.099 -14.966,-0.074 -15.024,-0.174 -15.045,-0.196 -15.117,-0.225 -15.175,-0.239 -15.362,-0.254 -15.836,-0.239 -15.879,-0.225 -16.002,-0.203 -16.073,-0.189 -16.145,-0.16 -16.224,-0.138 -16.332,-0.131 -16.339,-0.095 -16.304,-0.045 -16.253,0.005 -16.224,0.02 -16.167,0.077 -16.138,0.092 -16.109,0.12 -15.807,0.264 -15.75,0.279 -15.642,0.314 -15.635,0.322 -15.462,0.35 -15.405,0.365 -15.218,0.379 -15.16,0.394 hole: -15.448,0.25 -15.491,0.235 -15.52,0.221 -15.541,0.199 -15.556,0.142 -15.541,-0.059 -15.505,-0.138 -15.455,-0.146 -15.326,-0.131 -15.297,-0.103 -15.333,-0.009 -15.34,0.012 -15.34,0.027 -15.347,0.106 -15.34,0.243 hole: -15.735,0.178 -15.743,0.171 -15.75,0.163 -15.843,0.128 -16.095,-0.009 -16.102,-0.045 -16.081,-0.067 -16.023,-0.081 -15.944,-0.103 -15.872,-0.117 -15.757,-0.131 -15.678,-0.138 -15.642,-0.117 -15.656,0.07 -15.671,0.128 -15.685,0.171
  region: 15.071,-4.309 13.909,-4.309 13.909,-3.146 15.071,-3.146 hole: 14.916,-3.301 14.064,-3.301 14.064,-4.153 14.916,-4.153 14.916,-3.921 14.916,-3.843
  region: 15.071,-1.208 15.071,-1.363 13.909,-1.363 13.909,-0.2 15.071,-0.2 15.071,-1.13
  region: 14.994,-2.836 13.909,-2.836 13.909,-1.673 15.071,-1.673 15.071,-2.836
  region: 14.684,4.219 15.071,4.219 15.071,3.056 13.909,3.056 13.909,4.219 14.606,4.219
  region: 15.071,0.575 15.071,0.11 13.909,0.11 13.909,1.273 15.071,1.273 15.071,0.653
  region: 13.986,1.583 13.909,1.583 13.909,2.746 15.071,2.746 15.071,1.583 14.064,1.583
  region: 16.234,-2.836 15.381,-2.836 15.381,-1.673 16.544,-1.673 16.544,-2.836 16.312,-2.836
  region: 16.544,3.056 15.381,3.056 15.381,4.219 16.544,4.219 hole: 16.389,4.064 15.536,4.064 15.536,3.676 15.536,3.598 15.536,3.211 16.389,3.211
  region: 15.381,-4.153 15.381,-3.146 16.544,-3.146 16.544,-4.309 15.381,-4.309 15.381,-4.231
  region: 16.002,-0.2 16.544,-0.2 16.544,-1.363 15.381,-1.363 15.381,-0.2 15.924,-0.2
  region: 16.544,2.513 16.544,1.583 15.381,1.583 15.381,2.746 16.544,2.746 16.544,2.591
  region: 15.381,0.808 15.381,1.273 16.544,1.273 16.544,0.11 15.381,0.11 15.381,0.73
  region: 18.017,0.11 16.854,0.11 16.854,1.273 18.017,1.273 hole: 17.862,1.118 17.009,1.118 17.009,0.265 17.862,0.265
  region: 18.017,3.056 16.854,3.056 16.854,4.219 18.017,4.219 hole: 17.862,4.064 17.009,4.064 17.009,3.211 17.862,3.211
  region: 18.017,-1.75 18.017,-2.836 16.854,-2.836 16.854,-1.673 18.017,-1.673 hole: 17.862,-1.828 17.009,-1.828 17.009,-2.448 17.009,-2.526 17.009,-2.681 17.862,-2.681
  region: 16.854,-0.433 16.854,-0.2 18.017,-0.2 18.017,-1.363 16.854,-1.363 16.854,-0.51
  region: 18.017,-3.611 18.017,-4.309 16.854,-4.309 16.854,-3.146 18.017,-3.146 18.017,-3.533
  region: 16.854,2.126 16.854,2.746 18.017,2.746 18.017,1.583 16.854,1.583 16.854,2.048
  region: 19.335,-1.363 18.327,-1.363 18.327,-0.2 19.49,-0.2 19.49,-1.363 19.412,-1.363
  region: 19.49,3.056 18.327,3.056 18.327,4.219 19.49,4.219 hole: 19.335,4.064 18.482,4.064 18.482,3.211 19.335,3.211
  region: 18.327,2.513 18.327,2.746 19.49,2.746 19.49,1.583 18.327,1.583 18.327,2.436
  region: 19.49,0.11 18.327,0.11 18.327,1.273 19.49,1.273 hole: 19.335,1.118 18.482,1.118 18.482,0.73 18.482,0.653 18.482,0.265 19.335,0.265
  region: 19.102,-3.146 19.49,-3.146 19.49,-4.309 18.327,-4.309 18.327,-3.146 19.025,-3.146
  region: 19.49,-2.836 18.327,-2.836 18.327,-2.138 18.327,-2.06 18.327,-1.673 19.49,-1.673 hole: 19.335,-1.828 18.482,-1.828 18.482,-2.138 18.482,-2.216 18.482,-2.681 19.335,-2.681
  region: 20.963,-1.363 19.8,-1.363 19.8,-0.51 19.8,-0.433 19.8,-0.2 20.963,-0.2 hole: 20.808,-0.355 19.955,-0.355 19.955,-0.665 19.955,-0.743 19.955,-1.208 20.808,-1.208
  region: 19.955,0.11 19.8,0.11 19.8,1.273 20.963,1.273 20.963,0.11 20.033,0.11
  region: 20.575,-2.836 19.8,-2.836 19.8,-1.673 20.963,-1.673 20.963,-2.836 20.653,-2.836
  region: 20.963,3.366 20.963,3.056 19.8,3.056 19.8,4.219 20.963,4.219 20.963,3.443
  region: 20.963,-4.309 19.8,-4.309 19.8,-3.146 20.963,-3.146 hole: 20.808,-3.301 19.955,-3.301 19.955,-4.153 20.808,-4.153 20.808,-3.533 20.808,-3.456
  region: 20.963,2.436 20.963,1.583 19.8,1.583 19.8,2.746 20.963,2.746 20.963,2.513
  region: 22.436,1.893 22.436,1.816 22.436,1.583 21.273,1.583 21.273,2.746 22.436,2.746 hole: 22.281,2.591 21.428,2.591 21.428,1.738 22.281,1.738
  region: 22.436,-1.363 21.273,-1.363 21.273,-0.2 22.436,-0.2 hole: 22.281,-0.355 21.428,-0.355 21.428,-0.665 21.428,-0.743 21.428,-1.208 22.281,-1.208
  region: 22.436,3.211 22.436,3.056 21.273,3.056 21.273,4.219 22.436,4.219 22.436,3.288
  region: 22.436,-4.309 21.273,-4.309 21.273,-3.146 22.436,-3.146 hole: 22.281,-3.301 21.428,-3.301 21.428,-4.076 21.428,-4.153 22.281,-4.153
  region: 21.273,-2.836 21.273,-1.673 22.436,-1.673 22.436,-2.836 21.35,-2.836
  region: 21.816,1.273 22.436,1.273 22.436,0.11 21.273,0.11 21.273,1.273 21.738,1.273
  region: 22.746,3.831 22.746,4.219 23.909,4.219 23.909,3.056 22.746,3.056 22.746,3.753
  region: 23.753,-0.2 23.909,-0.2 23.909,-1.363 22.746,-1.363 22.746,-0.2 23.676,-0.2
  region: 22.746,-2.138 22.746,-1.673 23.909,-1.673 23.909,-2.836 22.746,-2.836 22.746,-2.216
  region: 23.909,-4.309 22.746,-4.309 22.746,-3.146 23.909,-3.146 hole: 23.753,-3.301 22.901,-3.301 22.901,-4.153 23.753,-4.153
  region: 23.909,1.583 22.746,1.583 22.746,2.746 23.909,2.746 hole: 23.753,2.591 22.901,2.591 22.901,1.738 23.753,1.738 23.753,2.513
  region: 22.746,1.118 22.746,1.273 23.909,1.273 23.909,0.11 22.746,0.11 22.746,1.04
  text "01-2024" at -11.848,-3.3 h2.2
  text "Malte Nilges" at -11.796,1.067 h2.2
Top Solder:
  drawing of 50 lines, arcs and shapes, not listed
  text "Malte Nilges" at -11.796,1.067 h2.2
  text "01-2024" at -11.848,-3.3 h2.2